# Altium footprint library RJ45-VERT.PcbLib: 1 footprints
Each footprint in its own frame and in the unit in brackets; x right, y up, seen from the top. Pads: shape width x height; smd on the part's side, far side on the other; paste and mask are expansions set on the pad; w line width, h text height; cw(c..) or ccw(c..) is an arc to the next point about the centre after c.
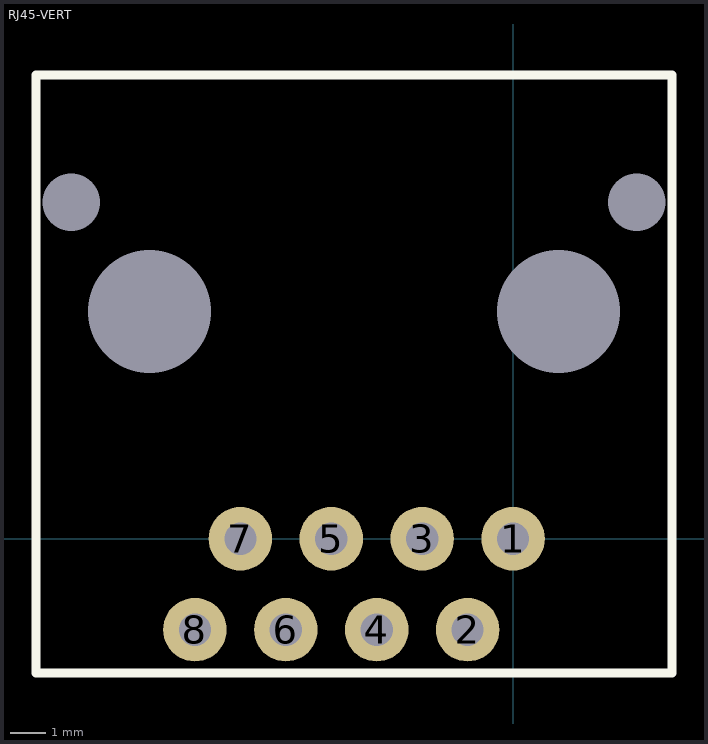
[diagram p0: the footprint, top view; thin cyan lines are the x and y axes]

## RJ45-VERT [mil]
pads (12):
  round 70 hole 35.43: 1(0,0) 2(-50,-100) 3(-100,0) 4(-150,-100) 5(-200,0) 6(-250,-100) 7(-300,0) 8(-350,-100)
  round 0 hole 135: 9(-400,250) 10(50,250)
  round 0 hole 62.99: 11(-486.02,370.07) 12(136.02,370.07)
Top Overlay:
  lines w10: -525,-147.48 175,-147.48 175,510 -525,510 -525,-147.48
3D body: height 640.37, standoff -129.32, extent -529.33,-155 179.33,500.12